# Altium integrated library TI Power Management Step-Up Regulator.IntLib: 226 symbols (part 2 of 11)
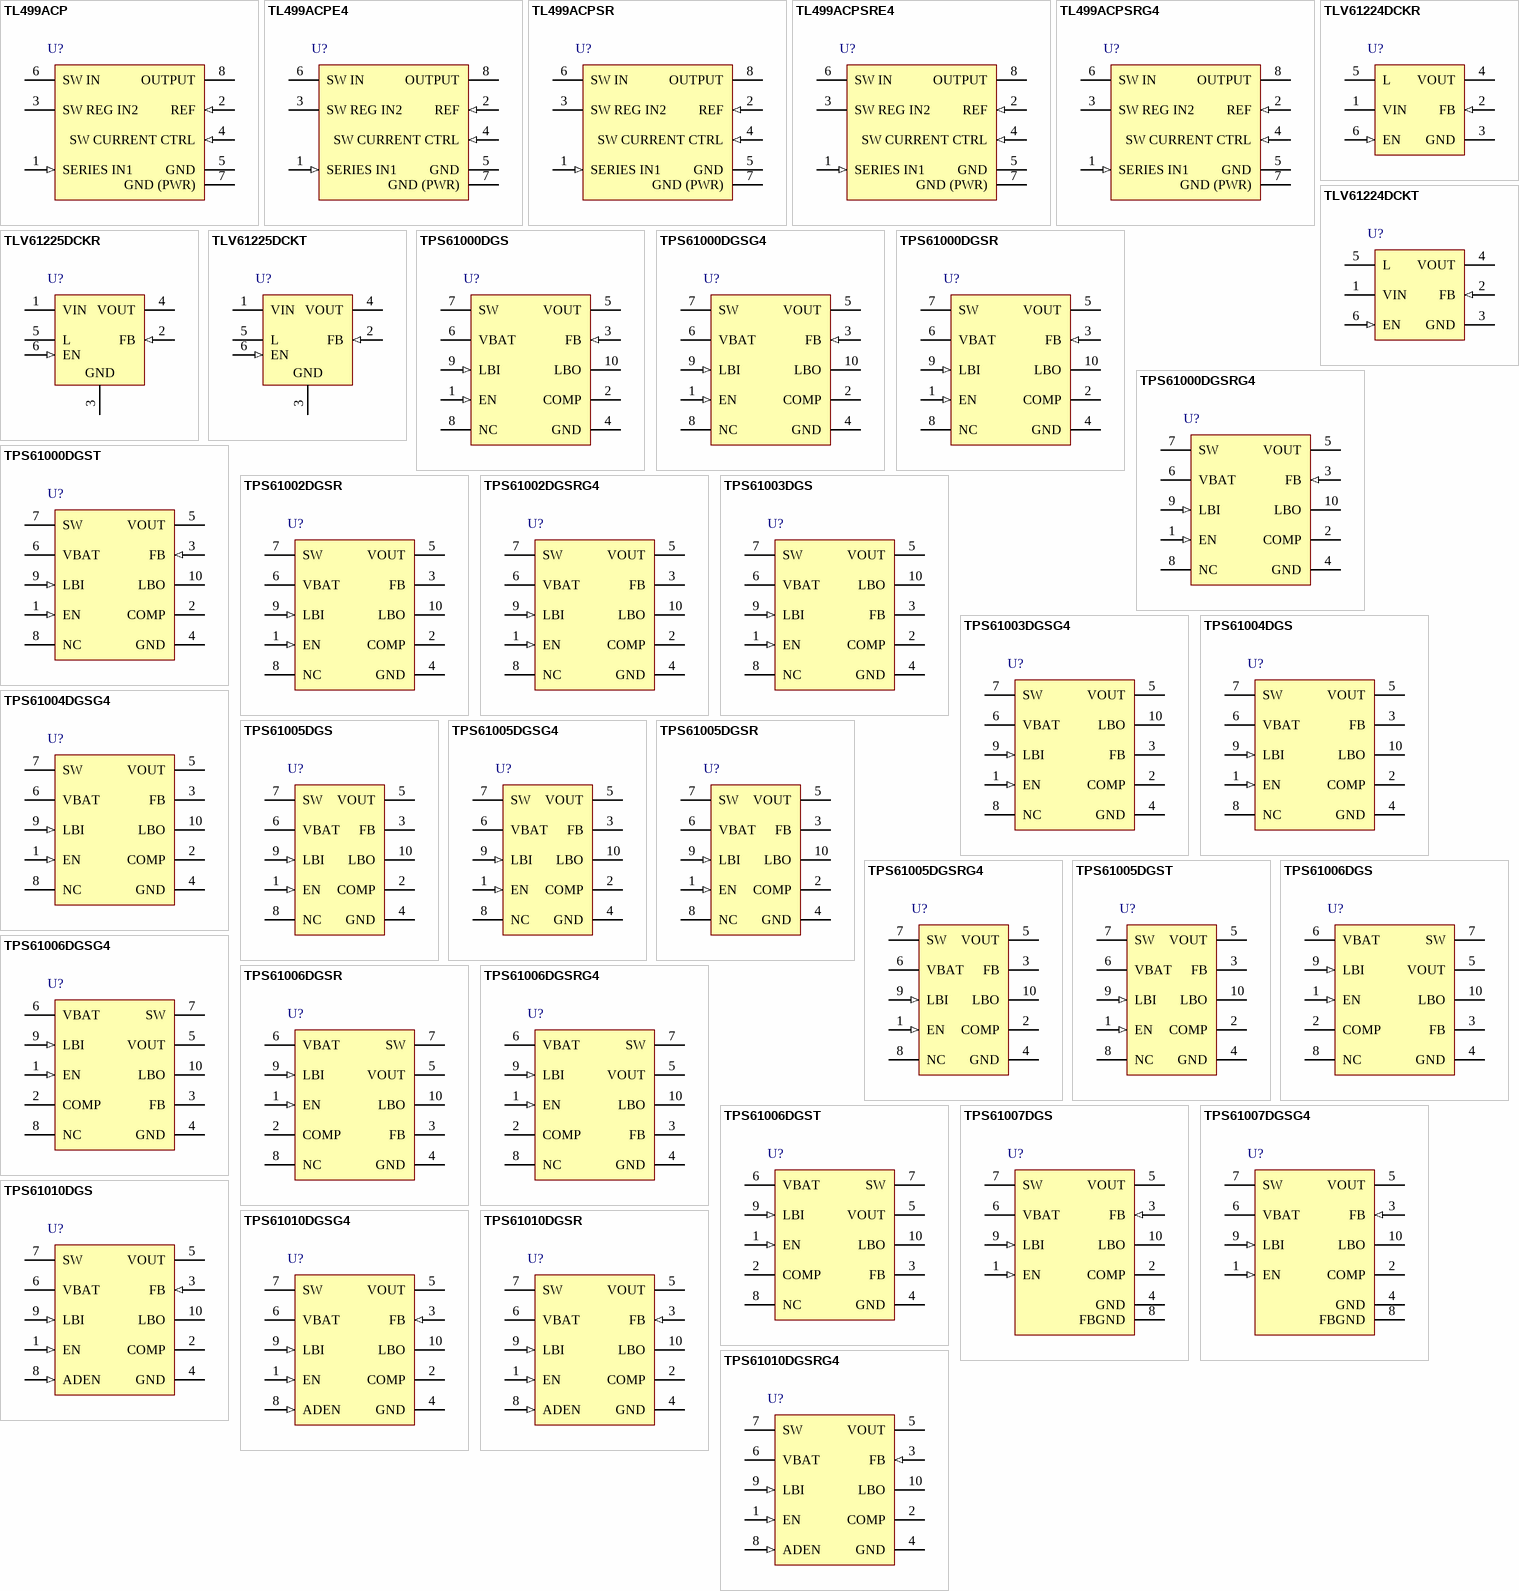
[diagram p7: symbols TL499ACP to TPS61010DGSRG4]

## TPS61005DGSR
designator U?
Boost Fixed Converter with 0.8 to 3 V Input and 3 V Output, -40 to 85 degC, 10-Pin MSOP (DGS), Green (RoHS & no Sb/Br); Manufacturer: Texas Instruments; PartNumber: TPS61005DGSR; Preset Vout(V): 3; Regulated Outputs(#): 1; SubFamily: Step-Up Regulator; Switching Frequency(Max)(kHz): 840; Vin(Min)(V): 0.8; DatasheetVersion: SLVS279C; PackageVersion: revC, Feb-2004; PackageReference: DGS10; PackageDescription: 10-Pin Thin Shrink Small Outline Package 0.5 mm Pitch; Supplier 1: Digi-Key; Supplier Part Number 1: TPS61005DGSR-ND; Supplier 2: Newark; Supplier Part Number 2: 77C0650; Supplier 3: Mouser; Supplier Part Number 3: 595-TPS61005DGSR; Eco-Plan: Green (RoHS & no Sb/Br); Topology: Boost; Vin(Max)(V): 3; Vout(Max)(V): 3; Vout(Min)(V): 3; Mounting Technology: Surface Mount; Code_JEDEC: MO-187-BA; ComponentLink1Description: Datasheet; ComponentLink1URL: http://www.ti.com/general/docs/lit/getliterature.tsp?genericPartNumber=TPS61005&fileType=pdf; ComponentLink2Description: Package Specification; ComponentLink2URL: http://www.ti.com/litv/pdf/mpds373
footprint DGS10_N (TSSOP, 10-Leads, Body 3x3mm, Pitch 0.5mm, IPC Medium Density)
footprint DGS10_L (TSSOP, 10-Leads, Body 3x3mm, Pitch 0.5mm, IPC High Density)
footprint DGS10_M (TSSOP, 10-Leads, Body 3x3mm, Pitch 0.5mm, IPC Low Density)
pins: 1 EN (in) "Chip-enable input. The converter is switched on if EN is set high, and is switched off when EN is connected to ground (shutdown mode).", 2 COMP "Compensation of error amplifier. Connect R-C-C network to set frequency response of control loop. See the Application section for more details.", 3 FB "The output voltage is programmed depending on the values of resistors R1 and R2. For the fixed output voltage versions (TPS61000, TPS61002, TPS61003, TPS61004, TPS61005, TPS61006), leave the FB pin unconnected.", 4 GND (power) "Ground", 5 VOUT (power) "Output voltage. For the fixed output voltage versions, the integrated resistive divider is connected to this pin.", 6 VBAT (power) "Supply pin", 7 SW (power) "Switch input pin. The node between inductor and anode of the rectifier diode is connected to this pin.", 8 NC "Not connected (TPS61000, TPS61002, TPS61003, TPS61004, TPS61005, TPS61006).", 9 LBI (in) "Low-battery detector input. A low-battery signal is generated at the LBO pin when the voltage on LBI drops below the threshold of 500 mV. Connect LBI to GND or VBAT if the low-battery detector function is not used. Do not (See Datasheet)", 10 LBO (hiz) "Open-drain low-battery detector output. This pin is pulled low if the voltage on LBI drops below the threshold of 500 mV. A pullup resistor should be connected between LBO and VOUT."

## TPS61005DGSRG4
designator U?
Boost Fixed Converter with 0.8 to 3 V Input and 3 V Output, -40 to 85 degC, 10-Pin MSOP (DGS), Green (RoHS & no Sb/Br); Manufacturer: Texas Instruments; PartNumber: TPS61005DGSRG4; Preset Vout(V): 3; Regulated Outputs(#): 1; SubFamily: Step-Up Regulator; Switching Frequency(Max)(kHz): 840; Vin(Min)(V): 0.8; DatasheetVersion: SLVS279C; PackageVersion: revC, Feb-2004; PackageReference: DGS10; PackageDescription: 10-Pin Thin Shrink Small Outline Package 0.5 mm Pitch; Supplier 1: Digi-Key; Supplier Part Number 1: TPS61005DGSRG4-ND; Supplier 2: Newark; Supplier Part Number 2: 24K6014; Supplier 3: Mouser; Supplier Part Number 3: 595-TPS61005DGSRG4; Eco-Plan: Green (RoHS & no Sb/Br); Topology: Boost; Vin(Max)(V): 3; Vout(Max)(V): 3; Vout(Min)(V): 3; Mounting Technology: Surface Mount; Code_JEDEC: MO-187-BA; ComponentLink1Description: Datasheet; ComponentLink1URL: http://www.ti.com/general/docs/lit/getliterature.tsp?genericPartNumber=TPS61005&fileType=pdf; ComponentLink2Description: Package Specification; ComponentLink2URL: http://www.ti.com/litv/pdf/mpds373
footprint DGS10_N (TSSOP, 10-Leads, Body 3x3mm, Pitch 0.5mm, IPC Medium Density)
footprint DGS10_L (TSSOP, 10-Leads, Body 3x3mm, Pitch 0.5mm, IPC High Density)
footprint DGS10_M (TSSOP, 10-Leads, Body 3x3mm, Pitch 0.5mm, IPC Low Density)
pins: 1 EN (in) "Chip-enable input. The converter is switched on if EN is set high, and is switched off when EN is connected to ground (shutdown mode).", 2 COMP "Compensation of error amplifier. Connect R-C-C network to set frequency response of control loop. See the Application section for more details.", 3 FB "The output voltage is programmed depending on the values of resistors R1 and R2. For the fixed output voltage versions (TPS61000, TPS61002, TPS61003, TPS61004, TPS61005, TPS61006), leave the FB pin unconnected.", 4 GND (power) "Ground", 5 VOUT (power) "Output voltage. For the fixed output voltage versions, the integrated resistive divider is connected to this pin.", 6 VBAT (power) "Supply pin", 7 SW (power) "Switch input pin. The node between inductor and anode of the rectifier diode is connected to this pin.", 8 NC "Not connected (TPS61000, TPS61002, TPS61003, TPS61004, TPS61005, TPS61006).", 9 LBI (in) "Low-battery detector input. A low-battery signal is generated at the LBO pin when the voltage on LBI drops below the threshold of 500 mV. Connect LBI to GND or VBAT if the low-battery detector function is not used. Do not (See Datasheet)", 10 LBO (hiz) "Open-drain low-battery detector output. This pin is pulled low if the voltage on LBI drops below the threshold of 500 mV. A pullup resistor should be connected between LBO and VOUT."

## TPS61005DGST
designator U?
Boost Fixed Converter with 0.8 to 3 V Input and 3 V Output, 10-Pin MSOP (DGS); Manufacturer: Texas Instruments; PartNumber: TPS61005DGST; Preset Vout(V): 3; Regulated Outputs(#): 1; SubFamily: Step-Up Regulator; Switching Frequency(Max)(kHz): 840; Vin(Min)(V): 0.8; DatasheetVersion: SLVS279C; PackageVersion: revC, Feb-2004; PackageReference: DGS10; PackageDescription: 10-Pin Thin Shrink Small Outline Package 0.5 mm Pitch; Supplier 1: Mouser; Supplier Part Number 1: N/A; Topology: Boost; Vin(Max)(V): 3; Vout(Max)(V): 3; Vout(Min)(V): 3; Mounting Technology: Surface Mount; Code_JEDEC: MO-187-BA; ComponentLink1Description: Datasheet; ComponentLink1URL: http://www.ti.com/general/docs/lit/getliterature.tsp?genericPartNumber=TPS61005&fileType=pdf; ComponentLink2Description: Package Specification; ComponentLink2URL: http://www.ti.com/litv/pdf/mpds373
footprint DGS10_N (TSSOP, 10-Leads, Body 3x3mm, Pitch 0.5mm, IPC Medium Density)
footprint DGS10_L (TSSOP, 10-Leads, Body 3x3mm, Pitch 0.5mm, IPC High Density)
footprint DGS10_M (TSSOP, 10-Leads, Body 3x3mm, Pitch 0.5mm, IPC Low Density)
pins: 1 EN (in) "Chip-enable input. The converter is switched on if EN is set high, and is switched off when EN is connected to ground (shutdown mode).", 2 COMP "Compensation of error amplifier. Connect R-C-C network to set frequency response of control loop. See the Application section for more details.", 3 FB "The output voltage is programmed depending on the values of resistors R1 and R2. For the fixed output voltage versions (TPS61000, TPS61002, TPS61003, TPS61004, TPS61005, TPS61006), leave the FB pin unconnected.", 4 GND (power) "Ground", 5 VOUT (power) "Output voltage. For the fixed output voltage versions, the integrated resistive divider is connected to this pin.", 6 VBAT (power) "Supply pin", 7 SW (power) "Switch input pin. The node between inductor and anode of the rectifier diode is connected to this pin.", 8 NC "Not connected (TPS61000, TPS61002, TPS61003, TPS61004, TPS61005, TPS61006).", 9 LBI (in) "Low-battery detector input. A low-battery signal is generated at the LBO pin when the voltage on LBI drops below the threshold of 500 mV. Connect LBI to GND or VBAT if the low-battery detector function is not used. Do not (See Datasheet)", 10 LBO (hiz) "Open-drain low-battery detector output. This pin is pulled low if the voltage on LBI drops below the threshold of 500 mV. A pullup resistor should be connected between LBO and VOUT."

## TPS61006DGS
designator U?
Boost Fixed Converter with 0.8 to 3.3 V Input and 3.3 V Output, -40 to 85 degC, 10-Pin MSOP (DGS), Green (RoHS & no Sb/Br); Manufacturer: Texas Instruments; PartNumber: TPS61006DGS; Preset Vout(V): 3.3; Regulated Outputs(#): 1; SubFamily: Step-Up Regulator; Switching Frequency(Max)(kHz): 840; Vin(Min)(V): 0.8; DatasheetVersion: SLVS279C; PackageVersion: revC, Feb-2004; PackageReference: DGS10; PackageDescription: 10-Pin Thin Shrink Small Outline Package 0.5 mm Pitch; Supplier 1: Digi-Key; Supplier Part Number 1: 296-3223-5-ND; Supplier 2: Farnell; Supplier Part Number 2: 1102967; Supplier 3: Newark; Supplier Part Number 3: 24M8534; Supplier 4: Newark; Supplier Part Number 4: 19C9065; Supplier 5: Mouser; Supplier Part Number 5: 595-TPS61006DGS; Eco-Plan: Green (RoHS & no Sb/Br); Topology: Boost; Vin(Max)(V): 3.3; Vout(Max)(V): 3.3; Vout(Min)(V): 3.3; Mounting Technology: Surface Mount; Code_JEDEC: MO-187-BA; ComponentLink1Description: Datasheet; ComponentLink1URL: http://www.ti.com/general/docs/lit/getliterature.tsp?genericPartNumber=TPS61006&fileType=pdf; ComponentLink2Description: Package Specification; ComponentLink2URL: http://www.ti.com/litv/pdf/mpds373
footprint DGS10_N (TSSOP, 10-Leads, Body 3x3mm, Pitch 0.5mm, IPC Medium Density)
footprint DGS10_L (TSSOP, 10-Leads, Body 3x3mm, Pitch 0.5mm, IPC High Density)
footprint DGS10_M (TSSOP, 10-Leads, Body 3x3mm, Pitch 0.5mm, IPC Low Density)
pins: 1 EN (in) "Chip-enable input. The converter is switched on if EN is set high, and is switched off when EN is connected to ground (shutdown mode).", 2 COMP "Compensation of error amplifier. Connect R-C-C network to set frequency response of control loop. See the Application section for more details.", 3 FB "The output voltage is programmed depending on the values of resistors R1 and R2. For the fixed output voltage versions (TPS61000, TPS61002, TPS61003, TPS61004, TPS61005, TPS61006), leave the FB pin unconnected.", 4 GND (power) "Ground", 5 VOUT (power) "Output voltage. For the fixed output voltage versions, the integrated resistive divider is connected to this pin.", 6 VBAT (power) "Supply pin", 7 SW (power) "Switch input pin. The node between inductor and anode of the rectifier diode is connected to this pin.", 8 NC "Not connected (TPS61000, TPS61002, TPS61003, TPS61004, TPS61005, TPS61006).", 9 LBI (in) "Low-battery detector input. A low-battery signal is generated at the LBO pin when the voltage on LBI drops below the threshold of 500 mV. Connect LBI to GND or VBAT if the low-battery detector function is not used. Do not (See Datasheet)", 10 LBO (hiz) "Open-drain low-battery detector output. This pin is pulled low if the voltage on LBI drops below the threshold of 500 mV. A pullup resistor should be connected between LBO and VOUT."

## TPS61006DGSG4
designator U?
Boost Fixed Converter with 0.8 to 3.3 V Input and 3.3 V Output, -40 to 85 degC, 10-Pin MSOP (DGS), Green (RoHS & no Sb/Br); Manufacturer: Texas Instruments; PartNumber: TPS61006DGSG4; Preset Vout(V): 3.3; Regulated Outputs(#): 1; SubFamily: Step-Up Regulator; Switching Frequency(Max)(kHz): 840; Vin(Min)(V): 0.8; DatasheetVersion: SLVS279C; PackageVersion: revC, Feb-2004; PackageReference: DGS10; PackageDescription: 10-Pin Thin Shrink Small Outline Package 0.5 mm Pitch; Supplier 1: Digi-Key; Supplier Part Number 1: TPS61006DGSG4-ND; Supplier 2: Newark; Supplier Part Number 2: 24K6015; Supplier 3: Mouser; Supplier Part Number 3: 595-TPS61006DGSG4; Eco-Plan: Green (RoHS & no Sb/Br); Topology: Boost; Vin(Max)(V): 3.3; Vout(Max)(V): 3.3; Vout(Min)(V): 3.3; Mounting Technology: Surface Mount; Code_JEDEC: MO-187-BA; ComponentLink1Description: Datasheet; ComponentLink1URL: http://www.ti.com/general/docs/lit/getliterature.tsp?genericPartNumber=TPS61006&fileType=pdf; ComponentLink2Description: Package Specification; ComponentLink2URL: http://www.ti.com/litv/pdf/mpds373
footprint DGS10_N (TSSOP, 10-Leads, Body 3x3mm, Pitch 0.5mm, IPC Medium Density)
footprint DGS10_L (TSSOP, 10-Leads, Body 3x3mm, Pitch 0.5mm, IPC High Density)
footprint DGS10_M (TSSOP, 10-Leads, Body 3x3mm, Pitch 0.5mm, IPC Low Density)
pins: 1 EN (in) "Chip-enable input. The converter is switched on if EN is set high, and is switched off when EN is connected to ground (shutdown mode).", 2 COMP "Compensation of error amplifier. Connect R-C-C network to set frequency response of control loop. See the Application section for more details.", 3 FB "The output voltage is programmed depending on the values of resistors R1 and R2. For the fixed output voltage versions (TPS61000, TPS61002, TPS61003, TPS61004, TPS61005, TPS61006), leave the FB pin unconnected.", 4 GND (power) "Ground", 5 VOUT (power) "Output voltage. For the fixed output voltage versions, the integrated resistive divider is connected to this pin.", 6 VBAT (power) "Supply pin", 7 SW (power) "Switch input pin. The node between inductor and anode of the rectifier diode is connected to this pin.", 8 NC "Not connected (TPS61000, TPS61002, TPS61003, TPS61004, TPS61005, TPS61006).", 9 LBI (in) "Low-battery detector input. A low-battery signal is generated at the LBO pin when the voltage on LBI drops below the threshold of 500 mV. Connect LBI to GND or VBAT if the low-battery detector function is not used. Do not (See Datasheet)", 10 LBO (hiz) "Open-drain low-battery detector output. This pin is pulled low if the voltage on LBI drops below the threshold of 500 mV. A pullup resistor should be connected between LBO and VOUT."

## TPS61006DGSR
designator U?
Boost Fixed Converter with 0.8 to 3.3 V Input and 3.3 V Output, -40 to 85 degC, 10-Pin MSOP (DGS), Green (RoHS & no Sb/Br); Manufacturer: Texas Instruments; PartNumber: TPS61006DGSR; Preset Vout(V): 3.3; Regulated Outputs(#): 1; SubFamily: Step-Up Regulator; Switching Frequency(Max)(kHz): 840; Vin(Min)(V): 0.8; DatasheetVersion: SLVS279C; PackageVersion: revC, Feb-2004; PackageReference: DGS10; PackageDescription: 10-Pin Thin Shrink Small Outline Package 0.5 mm Pitch; Supplier 1: Digi-Key; Supplier Part Number 1: TPS61006DGSR-ND; Supplier 2: Newark; Supplier Part Number 2: 77C0651; Supplier 3: Mouser; Supplier Part Number 3: 595-TPS61006DGSR; Eco-Plan: Green (RoHS & no Sb/Br); Topology: Boost; Vin(Max)(V): 3.3; Vout(Max)(V): 3.3; Vout(Min)(V): 3.3; Mounting Technology: Surface Mount; Code_JEDEC: MO-187-BA; ComponentLink1Description: Datasheet; ComponentLink1URL: http://www.ti.com/general/docs/lit/getliterature.tsp?genericPartNumber=TPS61006&fileType=pdf; ComponentLink2Description: Package Specification; ComponentLink2URL: http://www.ti.com/litv/pdf/mpds373
footprint DGS10_N (TSSOP, 10-Leads, Body 3x3mm, Pitch 0.5mm, IPC Medium Density)
footprint DGS10_L (TSSOP, 10-Leads, Body 3x3mm, Pitch 0.5mm, IPC High Density)
footprint DGS10_M (TSSOP, 10-Leads, Body 3x3mm, Pitch 0.5mm, IPC Low Density)
pins: 1 EN (in) "Chip-enable input. The converter is switched on if EN is set high, and is switched off when EN is connected to ground (shutdown mode).", 2 COMP "Compensation of error amplifier. Connect R-C-C network to set frequency response of control loop. See the Application section for more details.", 3 FB "The output voltage is programmed depending on the values of resistors R1 and R2. For the fixed output voltage versions (TPS61000, TPS61002, TPS61003, TPS61004, TPS61005, TPS61006), leave the FB pin unconnected.", 4 GND (power) "Ground", 5 VOUT (power) "Output voltage. For the fixed output voltage versions, the integrated resistive divider is connected to this pin.", 6 VBAT (power) "Supply pin", 7 SW (power) "Switch input pin. The node between inductor and anode of the rectifier diode is connected to this pin.", 8 NC "Not connected (TPS61000, TPS61002, TPS61003, TPS61004, TPS61005, TPS61006).", 9 LBI (in) "Low-battery detector input. A low-battery signal is generated at the LBO pin when the voltage on LBI drops below the threshold of 500 mV. Connect LBI to GND or VBAT if the low-battery detector function is not used. Do not (See Datasheet)", 10 LBO (hiz) "Open-drain low-battery detector output. This pin is pulled low if the voltage on LBI drops below the threshold of 500 mV. A pullup resistor should be connected between LBO and VOUT."

## TPS61006DGSRG4
designator U?
Boost Fixed Converter with 0.8 to 3.3 V Input and 3.3 V Output, -40 to 85 degC, 10-Pin MSOP (DGS), Green (RoHS & no Sb/Br); Manufacturer: Texas Instruments; PartNumber: TPS61006DGSRG4; Preset Vout(V): 3.3; Regulated Outputs(#): 1; SubFamily: Step-Up Regulator; Switching Frequency(Max)(kHz): 840; Vin(Min)(V): 0.8; DatasheetVersion: SLVS279C; PackageVersion: revC, Feb-2004; PackageReference: DGS10; PackageDescription: 10-Pin Thin Shrink Small Outline Package 0.5 mm Pitch; Supplier 1: Digi-Key; Supplier Part Number 1: TPS61006DGSRG4-ND; Supplier 2: Newark; Supplier Part Number 2: 71J8179; Supplier 3: Mouser; Supplier Part Number 3: 595-TPS61006DGSRG4; Eco-Plan: Green (RoHS & no Sb/Br); Topology: Boost; Vin(Max)(V): 3.3; Vout(Max)(V): 3.3; Vout(Min)(V): 3.3; Mounting Technology: Surface Mount; Code_JEDEC: MO-187-BA; ComponentLink1Description: Datasheet; ComponentLink1URL: http://www.ti.com/general/docs/lit/getliterature.tsp?genericPartNumber=TPS61006&fileType=pdf; ComponentLink2Description: Package Specification; ComponentLink2URL: http://www.ti.com/litv/pdf/mpds373
footprint DGS10_N (TSSOP, 10-Leads, Body 3x3mm, Pitch 0.5mm, IPC Medium Density)
footprint DGS10_L (TSSOP, 10-Leads, Body 3x3mm, Pitch 0.5mm, IPC High Density)
footprint DGS10_M (TSSOP, 10-Leads, Body 3x3mm, Pitch 0.5mm, IPC Low Density)
pins: 1 EN (in) "Chip-enable input. The converter is switched on if EN is set high, and is switched off when EN is connected to ground (shutdown mode).", 2 COMP "Compensation of error amplifier. Connect R-C-C network to set frequency response of control loop. See the Application section for more details.", 3 FB "The output voltage is programmed depending on the values of resistors R1 and R2. For the fixed output voltage versions (TPS61000, TPS61002, TPS61003, TPS61004, TPS61005, TPS61006), leave the FB pin unconnected.", 4 GND (power) "Ground", 5 VOUT (power) "Output voltage. For the fixed output voltage versions, the integrated resistive divider is connected to this pin.", 6 VBAT (power) "Supply pin", 7 SW (power) "Switch input pin. The node between inductor and anode of the rectifier diode is connected to this pin.", 8 NC "Not connected (TPS61000, TPS61002, TPS61003, TPS61004, TPS61005, TPS61006).", 9 LBI (in) "Low-battery detector input. A low-battery signal is generated at the LBO pin when the voltage on LBI drops below the threshold of 500 mV. Connect LBI to GND or VBAT if the low-battery detector function is not used. Do not (See Datasheet)", 10 LBO (hiz) "Open-drain low-battery detector output. This pin is pulled low if the voltage on LBI drops below the threshold of 500 mV. A pullup resistor should be connected between LBO and VOUT."

## TPS61006DGST
designator U?
Boost Fixed Converter with 0.8 to 3.3 V Input and 3.3 V Output, -40 to 85 degC, 10-Pin MSOP (DGS); Manufacturer: Texas Instruments; PartNumber: TPS61006DGST; Preset Vout(V): 3.3; Regulated Outputs(#): 1; SubFamily: Step-Up Regulator; Switching Frequency(Max)(kHz): 840; Vin(Min)(V): 0.8; DatasheetVersion: SLVS279C; PackageVersion: revC, Feb-2004; PackageReference: DGS10; PackageDescription: 10-Pin Thin Shrink Small Outline Package 0.5 mm Pitch; Supplier 1: Mouser; Supplier Part Number 1: N/A; Topology: Boost; Vin(Max)(V): 3.3; Vout(Max)(V): 3.3; Vout(Min)(V): 3.3; Mounting Technology: Surface Mount; Code_JEDEC: MO-187-BA; ComponentLink1Description: Datasheet; ComponentLink1URL: http://www.ti.com/general/docs/lit/getliterature.tsp?genericPartNumber=TPS61006&fileType=pdf; ComponentLink2Description: Package Specification; ComponentLink2URL: http://www.ti.com/litv/pdf/mpds373
footprint DGS10_N (TSSOP, 10-Leads, Body 3x3mm, Pitch 0.5mm, IPC Medium Density)
footprint DGS10_L (TSSOP, 10-Leads, Body 3x3mm, Pitch 0.5mm, IPC High Density)
footprint DGS10_M (TSSOP, 10-Leads, Body 3x3mm, Pitch 0.5mm, IPC Low Density)
pins: 1 EN (in) "Chip-enable input. The converter is switched on if EN is set high, and is switched off when EN is connected to ground (shutdown mode).", 2 COMP "Compensation of error amplifier. Connect R-C-C network to set frequency response of control loop. See the Application section for more details.", 3 FB "The output voltage is programmed depending on the values of resistors R1 and R2. For the fixed output voltage versions (TPS61000, TPS61002, TPS61003, TPS61004, TPS61005, TPS61006), leave the FB pin unconnected.", 4 GND (power) "Ground", 5 VOUT (power) "Output voltage. For the fixed output voltage versions, the integrated resistive divider is connected to this pin.", 6 VBAT (power) "Supply pin", 7 SW (power) "Switch input pin. The node between inductor and anode of the rectifier diode is connected to this pin.", 8 NC "Not connected (TPS61000, TPS61002, TPS61003, TPS61004, TPS61005, TPS61006).", 9 LBI (in) "Low-battery detector input. A low-battery signal is generated at the LBO pin when the voltage on LBI drops below the threshold of 500 mV. Connect LBI to GND or VBAT if the low-battery detector function is not used. Do not (See Datasheet)", 10 LBO (hiz) "Open-drain low-battery detector output. This pin is pulled low if the voltage on LBI drops below the threshold of 500 mV. A pullup resistor should be connected between LBO and VOUT."

## TPS61007DGS
designator U?
Boost Adjustable Converter with 0.8 to 3.3 V Input and 1.5 to 3.3 V Output, -40 to 85 degC, 10-Pin MSOP (DGS), Green (RoHS & no Sb/Br); Manufacturer: Texas Instruments; PartNumber: TPS61007DGS; Regulated Outputs(#): 1; SubFamily: Step-Up Regulator; Switching Frequency(Max)(kHz): 840; Vin(Max)(V): 3.3; Vin(Min)(V): 0.8; Vout(Min)(V): 1.5; DatasheetVersion: SLVS279C; PackageVersion: revC, Feb-2004; PackageReference: DGS10; PackageDescription: 10-Pin Thin Shrink Small Outline Package 0.5 mm Pitch; Supplier 1: Digi-Key; Supplier Part Number 1: 296-3224-5-ND; Supplier 2: Newark; Supplier Part Number 2: 77C0653; Supplier 3: Mouser; Supplier Part Number 3: 595-TPS61007DGS; Eco-Plan: Green (RoHS & no Sb/Br); Topology: Boost; Vout(Max)(V): 3.3; Mounting Technology: Surface Mount; Code_JEDEC: MO-187-BA; ComponentLink1Description: Datasheet; ComponentLink1URL: http://www.ti.com/general/docs/lit/getliterature.tsp?genericPartNumber=TPS61007&fileType=pdf; ComponentLink2Description: Package Specification; ComponentLink2URL: http://www.ti.com/litv/pdf/mpds373
footprint DGS10_N (TSSOP, 10-Leads, Body 3x3mm, Pitch 0.5mm, IPC Medium Density)
footprint DGS10_L (TSSOP, 10-Leads, Body 3x3mm, Pitch 0.5mm, IPC High Density)
footprint DGS10_M (TSSOP, 10-Leads, Body 3x3mm, Pitch 0.5mm, IPC Low Density)
pins: 1 EN (in) "Chip-enable input. The converter is switched on if EN is set high, and is switched off when EN is connected to ground (shutdown mode).", 2 COMP "Compensation of error amplifier. Connect R-C-C network to set frequency response of control loop. See the Application section for more details.", 3 FB (in) "Feedback input for adjustable output voltage (TPS61000 only). The output voltage is programmed depending on the values of resistors R1 and R2. For the fixed output voltage versions (TPS61000, TPS61002, TPS61003, TPS61004, (See Datasheet)", 4 GND (power) "Ground", 5 VOUT (power) "Output voltage. For the fixed output voltage versions, the integrated resistive divider is connected to this pin.", 6 VBAT (power) "Supply pin", 7 SW (power) "Switch input pin. The node between inductor and anode of the rectifier diode is connected to this pin.", 8 FBGND (power) "Not connected (TPS61000, TPS61002, TPS61003, TPS61004, TPS61005, TPS61006). A ground pin for the feedback resistor divider for the TPS61007 only.", 9 LBI (in) "Low-battery detector input. A low-battery signal is generated at the LBO pin when the voltage on LBI drops below the threshold of 500 mV. Connect LBI to GND or VBAT if the low-battery detector function is not used. Do not (See Datasheet)", 10 LBO (hiz) "Open-drain low-battery detector output. This pin is pulled low if the voltage on LBI drops below the threshold of 500 mV. A pullup resistor should be connected between LBO and VOUT."

## TPS61007DGSG4
designator U?
Boost Adjustable Converter with 0.8 to 3.3 V Input and 1.5 to 3.3 V Output, -40 to 85 degC, 10-Pin MSOP (DGS), Green (RoHS & no Sb/Br); Manufacturer: Texas Instruments; PartNumber: TPS61007DGSG4; Regulated Outputs(#): 1; SubFamily: Step-Up Regulator; Switching Frequency(Max)(kHz): 840; Vin(Max)(V): 3.3; Vin(Min)(V): 0.8; Vout(Min)(V): 1.5; DatasheetVersion: SLVS279C; PackageVersion: revC, Feb-2004; PackageReference: DGS10; PackageDescription: 10-Pin Thin Shrink Small Outline Package 0.5 mm Pitch; Supplier 1: Digi-Key; Supplier Part Number 1: TPS61007DGSG4-ND; Supplier 2: Newark; Supplier Part Number 2: 24K6016; Supplier 3: Mouser; Supplier Part Number 3: 595-TPS61007DGSG4; Eco-Plan: Green (RoHS & no Sb/Br); Topology: Boost; Vout(Max)(V): 3.3; Mounting Technology: Surface Mount; Code_JEDEC: MO-187-BA; ComponentLink1Description: Datasheet; ComponentLink1URL: http://www.ti.com/general/docs/lit/getliterature.tsp?genericPartNumber=TPS61007&fileType=pdf; ComponentLink2Description: Package Specification; ComponentLink2URL: http://www.ti.com/litv/pdf/mpds373
footprint DGS10_N (TSSOP, 10-Leads, Body 3x3mm, Pitch 0.5mm, IPC Medium Density)
footprint DGS10_L (TSSOP, 10-Leads, Body 3x3mm, Pitch 0.5mm, IPC High Density)
footprint DGS10_M (TSSOP, 10-Leads, Body 3x3mm, Pitch 0.5mm, IPC Low Density)
pins: 1 EN (in) "Chip-enable input. The converter is switched on if EN is set high, and is switched off when EN is connected to ground (shutdown mode).", 2 COMP "Compensation of error amplifier. Connect R-C-C network to set frequency response of control loop. See the Application section for more details.", 3 FB (in) "Feedback input for adjustable output voltage (TPS61000 only). The output voltage is programmed depending on the values of resistors R1 and R2. For the fixed output voltage versions (TPS61000, TPS61002, TPS61003, TPS61004, (See Datasheet)", 4 GND (power) "Ground", 5 VOUT (power) "Output voltage. For the fixed output voltage versions, the integrated resistive divider is connected to this pin.", 6 VBAT (power) "Supply pin", 7 SW (power) "Switch input pin. The node between inductor and anode of the rectifier diode is connected to this pin.", 8 FBGND (power) "Not connected (TPS61000, TPS61002, TPS61003, TPS61004, TPS61005, TPS61006). A ground pin for the feedback resistor divider for the TPS61007 only.", 9 LBI (in) "Low-battery detector input. A low-battery signal is generated at the LBO pin when the voltage on LBI drops below the threshold of 500 mV. Connect LBI to GND or VBAT if the low-battery detector function is not used. Do not (See Datasheet)", 10 LBO (hiz) "Open-drain low-battery detector output. This pin is pulled low if the voltage on LBI drops below the threshold of 500 mV. A pullup resistor should be connected between LBO and VOUT."

## TPS61010DGS
designator U?
Boost Adjustable Converter with 0.8 to 3.3 V Input and 1.5 to 3.3 V Output, -40 to 85 degC, 10-Pin MSOP (DGS), Green (RoHS & no Sb/Br); Manufacturer: Texas Instruments; PartNumber: TPS61010DGS; Regulated Outputs(#): 1; SubFamily: Step-Up Regulator; Switching Frequency(Max)(kHz): 780; Synchronous Rectification: TRUE; Vin(Max)(V): 3.3; Vin(Min)(V): 0.8; Vout(Min)(V): 1.5; DatasheetVersion: SLVS314D; PackageVersion: revC, Feb-2004; PackageReference: DGS10; PackageDescription: 10-Pin Thin Shrink Small Outline Package 0.5 mm Pitch; Supplier 1: Digi-Key; Supplier Part Number 1: 296-10969-5-ND; Supplier 2: Farnell; Supplier Part Number 2: 8457808; Supplier 3: Newark; Supplier Part Number 3: 25C5037; Supplier 4: Mouser; Supplier Part Number 4: 595-TPS61010DGS; Eco-Plan: Green (RoHS & no Sb/Br); Topology: Boost; Vout(Max)(V): 3.3; Mounting Technology: Surface Mount; Code_JEDEC: MO-187-BA; ComponentLink1Description: Datasheet; ComponentLink1URL: http://www.ti.com/general/docs/lit/getliterature.tsp?genericPartNumber=TPS61010&fileType=pdf; ComponentLink2Description: Package Specification; ComponentLink2URL: http://www.ti.com/litv/pdf/mpds373
footprint DGS10_N (TSSOP, 10-Leads, Body 3x3mm, Pitch 0.5mm, IPC Medium Density)
footprint DGS10_L (TSSOP, 10-Leads, Body 3x3mm, Pitch 0.5mm, IPC High Density)
footprint DGS10_M (TSSOP, 10-Leads, Body 3x3mm, Pitch 0.5mm, IPC Low Density)
pins: 1 EN (in) "Chip-enable input. The converter is switched on if this pin is set high, it is switched off if this pin is connected to GND.", 2 COMP "Compensation of error amplifier. Connect an R/C/C network to set frequency response of control loop.", 3 FB (in) "Feedback input for adjustable output voltage version TPS61010. Output voltage is programmed depending on the output voltage divider connected there. For the fixed output voltage versions, leave FB-pin unconnected.", 4 GND (power) "Ground", 5 VOUT (power) "Output voltage. Internal resistor divider sets regulated output voltage in fixed output voltage versions.", 6 VBAT (power) "Supply pin", 7 SW (power) "Switch input pin. The inductor is connected to this pin.", 8 ADEN (in) "Autodischarge input. The autodischarge function is enabled if this pin is connected to VBAT, it is disabled if ADEN is tied to GND.", 9 LBI (in) "Low-battery detector input. A low battery warning is generated at LBO when the voltage on LBI drops below the threshold of 500 mV. Connect LBI to GND or VBAT if the low-battery detector function is not used. Do not leave (See Datasheet)", 10 LBO (hiz) "Open-drain low-battery detector output. This pin is pulled low if the voltage on LBI drops below the threshold of 500 mV. A pullup resistor must be connected between LBO and VOUT."

## TPS61010DGSG4
designator U?
Boost Adjustable Converter with 0.8 to 3.3 V Input and 1.5 to 3.3 V Output, -40 to 85 degC, 10-Pin MSOP (DGS), Green (RoHS & no Sb/Br); Manufacturer: Texas Instruments; PartNumber: TPS61010DGSG4; Regulated Outputs(#): 1; SubFamily: Step-Up Regulator; Switching Frequency(Max)(kHz): 780; Synchronous Rectification: TRUE; Vin(Max)(V): 3.3; Vin(Min)(V): 0.8; Vout(Min)(V): 1.5; DatasheetVersion: SLVS314D; PackageVersion: revC, Feb-2004; PackageReference: DGS10; PackageDescription: 10-Pin Thin Shrink Small Outline Package 0.5 mm Pitch; Supplier 1: Digi-Key; Supplier Part Number 1: TPS61010DGSG4-ND; Supplier 2: Farnell; Supplier Part Number 2: 9324283; Supplier 3: Newark; Supplier Part Number 3: 71J8180; Supplier 4: Mouser; Supplier Part Number 4: 595-TPS61010DGSG4; Eco-Plan: Green (RoHS & no Sb/Br); Topology: Boost; Vout(Max)(V): 3.3; Mounting Technology: Surface Mount; Code_JEDEC: MO-187-BA; ComponentLink1Description: Datasheet; ComponentLink1URL: http://www.ti.com/general/docs/lit/getliterature.tsp?genericPartNumber=TPS61010&fileType=pdf; ComponentLink2Description: Package Specification; ComponentLink2URL: http://www.ti.com/litv/pdf/mpds373
footprint DGS10_N (TSSOP, 10-Leads, Body 3x3mm, Pitch 0.5mm, IPC Medium Density)
footprint DGS10_L (TSSOP, 10-Leads, Body 3x3mm, Pitch 0.5mm, IPC High Density)
footprint DGS10_M (TSSOP, 10-Leads, Body 3x3mm, Pitch 0.5mm, IPC Low Density)
pins: 1 EN (in) "Chip-enable input. The converter is switched on if this pin is set high, it is switched off if this pin is connected to GND.", 2 COMP "Compensation of error amplifier. Connect an R/C/C network to set frequency response of control loop.", 3 FB (in) "Feedback input for adjustable output voltage version TPS61010. Output voltage is programmed depending on the output voltage divider connected there. For the fixed output voltage versions, leave FB-pin unconnected.", 4 GND (power) "Ground", 5 VOUT (power) "Output voltage. Internal resistor divider sets regulated output voltage in fixed output voltage versions.", 6 VBAT (power) "Supply pin", 7 SW (power) "Switch input pin. The inductor is connected to this pin.", 8 ADEN (in) "Autodischarge input. The autodischarge function is enabled if this pin is connected to VBAT, it is disabled if ADEN is tied to GND.", 9 LBI (in) "Low-battery detector input. A low battery warning is generated at LBO when the voltage on LBI drops below the threshold of 500 mV. Connect LBI to GND or VBAT if the low-battery detector function is not used. Do not leave (See Datasheet)", 10 LBO (hiz) "Open-drain low-battery detector output. This pin is pulled low if the voltage on LBI drops below the threshold of 500 mV. A pullup resistor must be connected between LBO and VOUT."

## TPS61010DGSR
designator U?
Boost Adjustable Converter with 0.8 to 3.3 V Input and 1.5 to 3.3 V Output, -40 to 85 degC, 10-Pin MSOP (DGS), Green (RoHS & no Sb/Br); Manufacturer: Texas Instruments; PartNumber: TPS61010DGSR; Regulated Outputs(#): 1; SubFamily: Step-Up Regulator; Switching Frequency(Max)(kHz): 780; Synchronous Rectification: TRUE; Vin(Max)(V): 3.3; Vin(Min)(V): 0.8; Vout(Min)(V): 1.5; DatasheetVersion: SLVS314D; PackageVersion: revC, Feb-2004; PackageReference: DGS10; PackageDescription: 10-Pin Thin Shrink Small Outline Package 0.5 mm Pitch; Supplier 1: Digi-Key; Supplier Part Number 1: 296-25778-2-ND; Supplier 2: Digi-Key; Supplier Part Number 2: 296-25778-1-ND; Supplier 3: Digi-Key; Supplier Part Number 3: 296-25778-6-ND; Supplier 4: Newark; Supplier Part Number 4: 77C0655; Supplier 5: Mouser; Supplier Part Number 5: 595-TPS61010DGSR; Eco-Plan: Green (RoHS & no Sb/Br); Topology: Boost; Vout(Max)(V): 3.3; Mounting Technology: Surface Mount; Code_JEDEC: MO-187-BA; ComponentLink1Description: Datasheet; ComponentLink1URL: http://www.ti.com/general/docs/lit/getliterature.tsp?genericPartNumber=TPS61010&fileType=pdf; ComponentLink2Description: Package Specification; ComponentLink2URL: http://www.ti.com/litv/pdf/mpds373
footprint DGS10_N (TSSOP, 10-Leads, Body 3x3mm, Pitch 0.5mm, IPC Medium Density)
footprint DGS10_L (TSSOP, 10-Leads, Body 3x3mm, Pitch 0.5mm, IPC High Density)
footprint DGS10_M (TSSOP, 10-Leads, Body 3x3mm, Pitch 0.5mm, IPC Low Density)
pins: 1 EN (in) "Chip-enable input. The converter is switched on if this pin is set high, it is switched off if this pin is connected to GND.", 2 COMP "Compensation of error amplifier. Connect an R/C/C network to set frequency response of control loop.", 3 FB (in) "Feedback input for adjustable output voltage version TPS61010. Output voltage is programmed depending on the output voltage divider connected there. For the fixed output voltage versions, leave FB-pin unconnected.", 4 GND (power) "Ground", 5 VOUT (power) "Output voltage. Internal resistor divider sets regulated output voltage in fixed output voltage versions.", 6 VBAT (power) "Supply pin", 7 SW (power) "Switch input pin. The inductor is connected to this pin.", 8 ADEN (in) "Autodischarge input. The autodischarge function is enabled if this pin is connected to VBAT, it is disabled if ADEN is tied to GND.", 9 LBI (in) "Low-battery detector input. A low battery warning is generated at LBO when the voltage on LBI drops below the threshold of 500 mV. Connect LBI to GND or VBAT if the low-battery detector function is not used. Do not leave (See Datasheet)", 10 LBO (hiz) "Open-drain low-battery detector output. This pin is pulled low if the voltage on LBI drops below the threshold of 500 mV. A pullup resistor must be connected between LBO and VOUT."

## TPS61010DGSRG4
designator U?
Boost Adjustable Converter with 0.8 to 3.3 V Input and 1.5 to 3.3 V Output, -40 to 85 degC, 10-Pin MSOP (DGS), Green (RoHS & no Sb/Br); Manufacturer: Texas Instruments; PartNumber: TPS61010DGSRG4; Regulated Outputs(#): 1; SubFamily: Step-Up Regulator; Switching Frequency(Max)(kHz): 780; Synchronous Rectification: TRUE; Vin(Max)(V): 3.3; Vin(Min)(V): 0.8; Vout(Min)(V): 1.5; DatasheetVersion: SLVS314D; PackageVersion: revC, Feb-2004; PackageReference: DGS10; PackageDescription: 10-Pin Thin Shrink Small Outline Package 0.5 mm Pitch; Supplier 1: Digi-Key; Supplier Part Number 1: TPS61010DGSRG4-ND; Supplier 2: Newark; Supplier Part Number 2: 65J6902; Supplier 3: Mouser; Supplier Part Number 3: 595-TPS61010DGSRG4; Eco-Plan: Green (RoHS & no Sb/Br); Topology: Boost; Vout(Max)(V): 3.3; Mounting Technology: Surface Mount; Code_JEDEC: MO-187-BA; ComponentLink1Description: Datasheet; ComponentLink1URL: http://www.ti.com/general/docs/lit/getliterature.tsp?genericPartNumber=TPS61010&fileType=pdf; ComponentLink2Description: Package Specification; ComponentLink2URL: http://www.ti.com/litv/pdf/mpds373
footprint DGS10_N (TSSOP, 10-Leads, Body 3x3mm, Pitch 0.5mm, IPC Medium Density)
footprint DGS10_L (TSSOP, 10-Leads, Body 3x3mm, Pitch 0.5mm, IPC High Density)
footprint DGS10_M (TSSOP, 10-Leads, Body 3x3mm, Pitch 0.5mm, IPC Low Density)
pins: 1 EN (in) "Chip-enable input. The converter is switched on if this pin is set high, it is switched off if this pin is connected to GND.", 2 COMP "Compensation of error amplifier. Connect an R/C/C network to set frequency response of control loop.", 3 FB (in) "Feedback input for adjustable output voltage version TPS61010. Output voltage is programmed depending on the output voltage divider connected there. For the fixed output voltage versions, leave FB-pin unconnected.", 4 GND (power) "Ground", 5 VOUT (power) "Output voltage. Internal resistor divider sets regulated output voltage in fixed output voltage versions.", 6 VBAT (power) "Supply pin", 7 SW (power) "Switch input pin. The inductor is connected to this pin.", 8 ADEN (in) "Autodischarge input. The autodischarge function is enabled if this pin is connected to VBAT, it is disabled if ADEN is tied to GND.", 9 LBI (in) "Low-battery detector input. A low battery warning is generated at LBO when the voltage on LBI drops below the threshold of 500 mV. Connect LBI to GND or VBAT if the low-battery detector function is not used. Do not leave (See Datasheet)", 10 LBO (hiz) "Open-drain low-battery detector output. This pin is pulled low if the voltage on LBI drops below the threshold of 500 mV. A pullup resistor must be connected between LBO and VOUT."

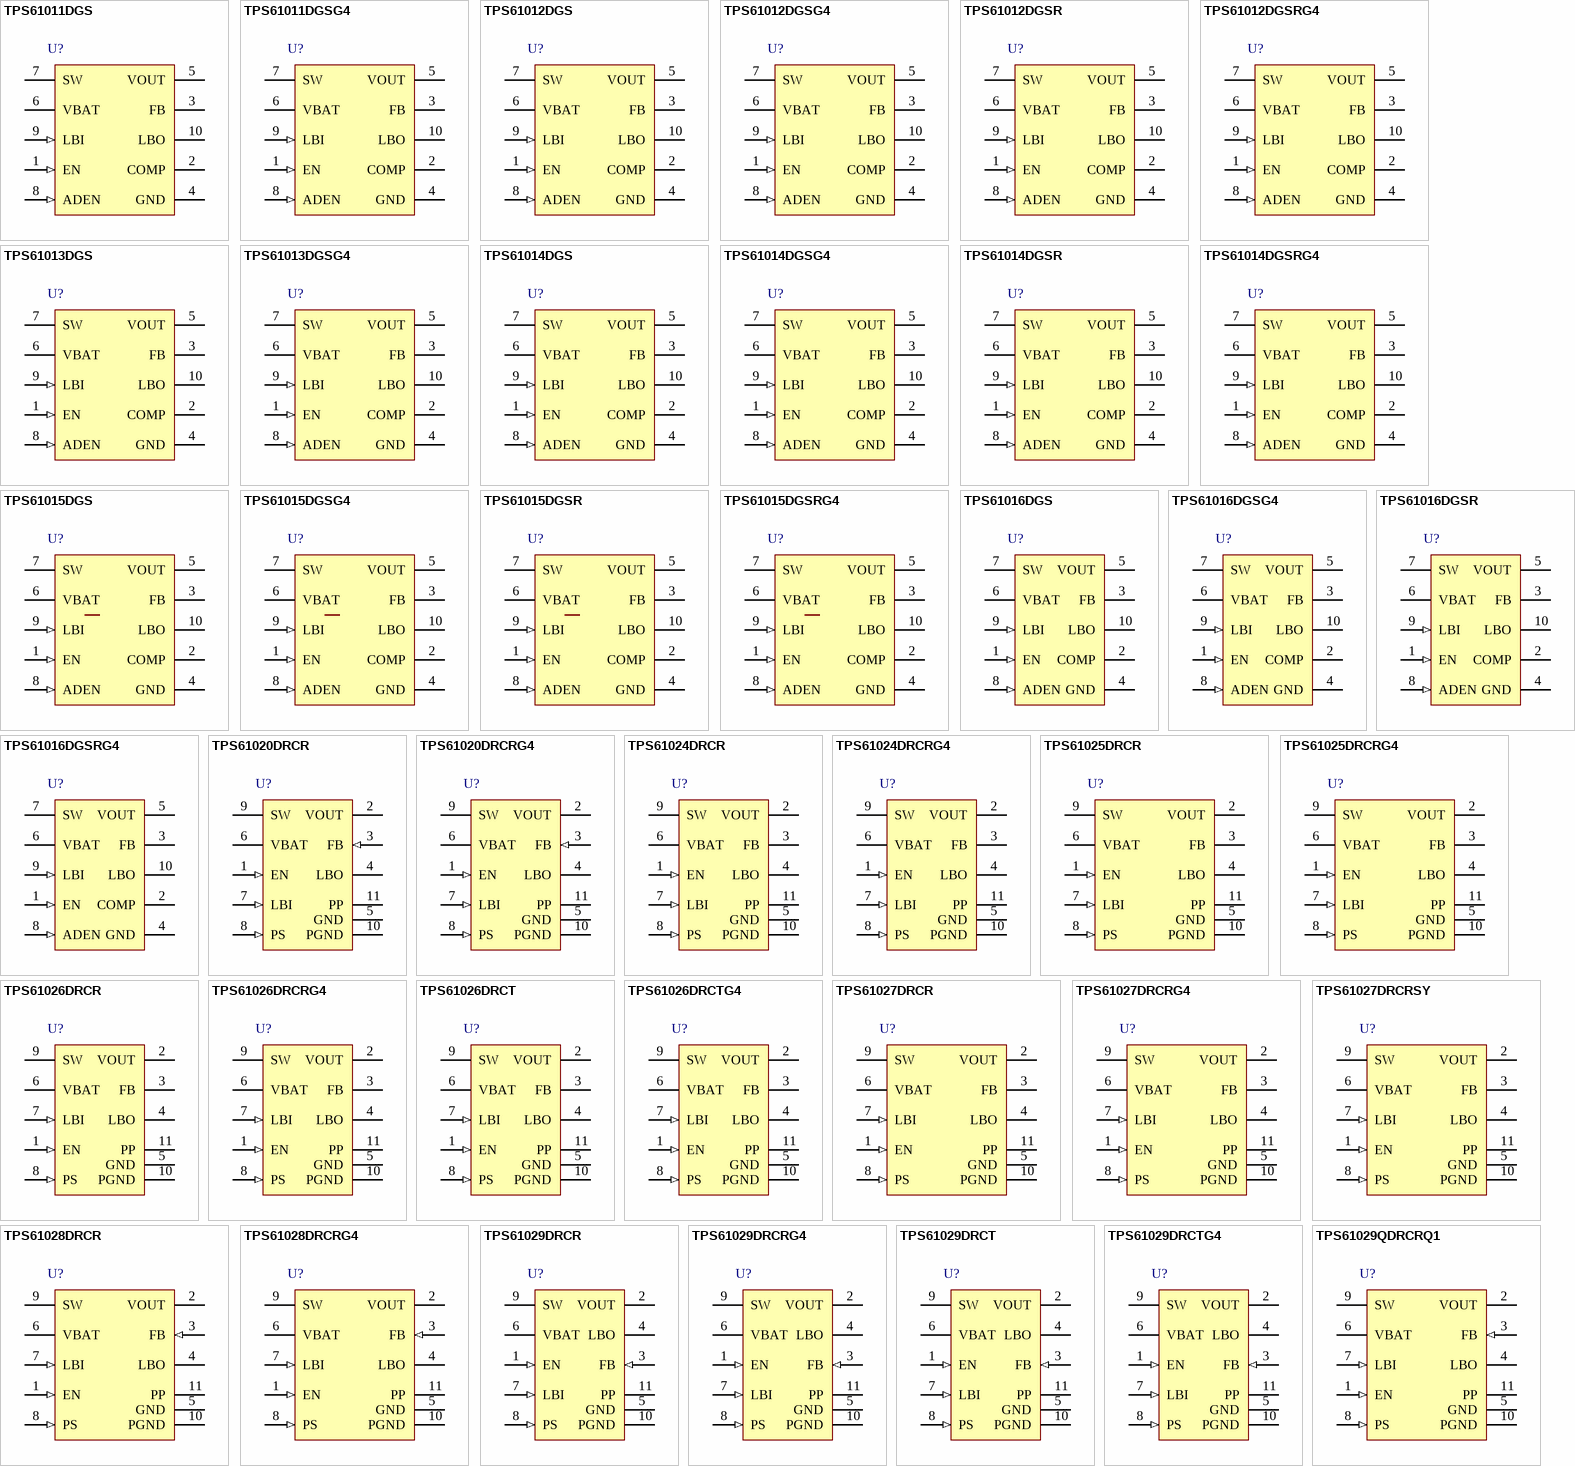
[diagram p1: symbols TPS61011DGS to TPS61029QDRCRQ1]

## TPS61011DGS
designator U?
Boost Voltage Converter with 0.8 to 1.5 V Input and 1.5 V Output, -40 to 85 degC, 10-Pin MSOP (DGS); Manufacturer: Texas Instruments; PartNumber: TPS61011DGS; Eco-Plan: TBD; Preset Vout(V): 1.5; Regulated Outputs(#): 1; SubFamily: Step-Up Regulator; Switching Frequency(Max)(kHz): 780; Synchronous Rectification: TRUE; Vin(Min)(V): 0.8; DatasheetVersion: SLVS314D; PackageVersion: revC, Feb-2004; PackageReference: DGS10; PackageDescription: 10-Pin Thin Shrink Small Outline Package 0.5 mm Pitch; Supplier 1: Digi-Key; Supplier Part Number 1: 296-10970-5-ND; Supplier 2: Newark; Supplier Part Number 2: 77C0657; Supplier 3: Mouser; Supplier Part Number 3: 595-TPS61011DGS; Topology: Boost; Vin(Max)(V): 1.5; Vout(Max)(V): 1.5; Vout(Min)(V): 1.5; Mounting Technology: Surface Mount; Code_JEDEC: MO-187-BA; ComponentLink1Description: Datasheet; ComponentLink1URL: http://www.ti.com/general/docs/lit/getliterature.tsp?genericPartNumber=TPS61011&fileType=pdf; ComponentLink2Description: Package Specification; ComponentLink2URL: http://www.ti.com/litv/pdf/mpds373
footprint DGS10_N (TSSOP, 10-Leads, Body 3x3mm, Pitch 0.5mm, IPC Medium Density)
footprint DGS10_L (TSSOP, 10-Leads, Body 3x3mm, Pitch 0.5mm, IPC High Density)
footprint DGS10_M (TSSOP, 10-Leads, Body 3x3mm, Pitch 0.5mm, IPC Low Density)
pins: 1 EN (in) "Chip-enable input. The converter is switched on if this pin is set high, it is switched off if this pin is connected to GND.", 2 COMP "Compensation of error amplifier. Connect an R/C/C network to set frequency response of control loop.", 3 FB "Feedback input for adjustable output voltage version TPS61010. Output voltage is programmed depending on the output voltage divider connected there. For the fixed output voltage versions, leave FB-pin unconnected.", 4 GND (power) "Ground", 5 VOUT (power) "Output voltage. Internal resistor divider sets regulated output voltage in fixed output voltage versions.", 6 VBAT (power) "Supply pin", 7 SW (power) "Switch input pin. The inductor is connected to this pin.", 8 ADEN (in) "Autodischarge input. The autodischarge function is enabled if this pin is connected to VBAT, it is disabled if ADEN is tied to GND.", 9 LBI (in) "Low-battery detector input. A low battery warning is generated at LBO when the voltage on LBI drops below the threshold of 500 mV. Connect LBI to GND or VBAT if the low-battery detector function is not used. Do not leave (See Datasheet)", 10 LBO (hiz) "Open-drain low-battery detector output. This pin is pulled low if the voltage on LBI drops below the threshold of 500 mV. A pullup resistor must be connected between LBO and VOUT."

## TPS61011DGSG4
designator U?
Boost Voltage Converter with 0.8 to 1.5 V Input and 1.5 V Output, -40 to 85 degC, 10-Pin MSOP (DGS); Manufacturer: Texas Instruments; PartNumber: TPS61011DGSG4; Eco-Plan: TBD; Preset Vout(V): 1.5; Regulated Outputs(#): 1; SubFamily: Step-Up Regulator; Switching Frequency(Max)(kHz): 780; Synchronous Rectification: TRUE; Vin(Min)(V): 0.8; DatasheetVersion: SLVS314D; PackageVersion: revC, Feb-2004; PackageReference: DGS10; PackageDescription: 10-Pin Thin Shrink Small Outline Package 0.5 mm Pitch; Supplier 1: Digi-Key; Supplier Part Number 1: TPS61011DGSG4-ND; Supplier 2: Newark; Supplier Part Number 2: 54K1713; Supplier 3: Mouser; Supplier Part Number 3: 595-TPS61011DGSG4; Topology: Boost; Vin(Max)(V): 1.5; Vout(Max)(V): 1.5; Vout(Min)(V): 1.5; Mounting Technology: Surface Mount; Code_JEDEC: MO-187-BA; ComponentLink1Description: Datasheet; ComponentLink1URL: http://www.ti.com/general/docs/lit/getliterature.tsp?genericPartNumber=TPS61011&fileType=pdf; ComponentLink2Description: Package Specification; ComponentLink2URL: http://www.ti.com/litv/pdf/mpds373
footprint DGS10_N (TSSOP, 10-Leads, Body 3x3mm, Pitch 0.5mm, IPC Medium Density)
footprint DGS10_L (TSSOP, 10-Leads, Body 3x3mm, Pitch 0.5mm, IPC High Density)
footprint DGS10_M (TSSOP, 10-Leads, Body 3x3mm, Pitch 0.5mm, IPC Low Density)
pins: 1 EN (in) "Chip-enable input. The converter is switched on if this pin is set high, it is switched off if this pin is connected to GND.", 2 COMP "Compensation of error amplifier. Connect an R/C/C network to set frequency response of control loop.", 3 FB "Feedback input for adjustable output voltage version TPS61010. Output voltage is programmed depending on the output voltage divider connected there. For the fixed output voltage versions, leave FB-pin unconnected.", 4 GND (power) "Ground", 5 VOUT (power) "Output voltage. Internal resistor divider sets regulated output voltage in fixed output voltage versions.", 6 VBAT (power) "Supply pin", 7 SW (power) "Switch input pin. The inductor is connected to this pin.", 8 ADEN (in) "Autodischarge input. The autodischarge function is enabled if this pin is connected to VBAT, it is disabled if ADEN is tied to GND.", 9 LBI (in) "Low-battery detector input. A low battery warning is generated at LBO when the voltage on LBI drops below the threshold of 500 mV. Connect LBI to GND or VBAT if the low-battery detector function is not used. Do not leave (See Datasheet)", 10 LBO (hiz) "Open-drain low-battery detector output. This pin is pulled low if the voltage on LBI drops below the threshold of 500 mV. A pullup resistor must be connected between LBO and VOUT."

## TPS61012DGS
designator U?
Boost Fixed Converter with 0.8 to 1.8 V Input and 1.8 V Output, -40 to 85 degC, 10-Pin MSOP (DGS), Green (RoHS & no Sb/Br); Manufacturer: Texas Instruments; PartNumber: TPS61012DGS; Preset Vout(V): 1.8; Regulated Outputs(#): 1; SubFamily: Step-Up Regulator; Switching Frequency(Max)(kHz): 780; Synchronous Rectification: TRUE; Vin(Min)(V): 0.8; DatasheetVersion: SLVS314D; PackageVersion: revC, Feb-2004; PackageReference: DGS10; PackageDescription: 10-Pin Thin Shrink Small Outline Package 0.5 mm Pitch; Supplier 1: Digi-Key; Supplier Part Number 1: 296-10971-5-ND; Supplier 2: Farnell; Supplier Part Number 2: 1471236; Supplier 3: Newark; Supplier Part Number 3: 77C0659; Supplier 4: Mouser; Supplier Part Number 4: 595-TPS61012DGS; Eco-Plan: Green (RoHS & no Sb/Br); Topology: Boost; Vin(Max)(V): 1.8; Vout(Max)(V): 1.8; Vout(Min)(V): 1.8; Mounting Technology: Surface Mount; Code_JEDEC: MO-187-BA; ComponentLink1Description: Datasheet; ComponentLink1URL: http://www.ti.com/general/docs/lit/getliterature.tsp?genericPartNumber=TPS61012&fileType=pdf; ComponentLink2Description: Package Specification; ComponentLink2URL: http://www.ti.com/litv/pdf/mpds373
footprint DGS10_N (TSSOP, 10-Leads, Body 3x3mm, Pitch 0.5mm, IPC Medium Density)
footprint DGS10_L (TSSOP, 10-Leads, Body 3x3mm, Pitch 0.5mm, IPC High Density)
footprint DGS10_M (TSSOP, 10-Leads, Body 3x3mm, Pitch 0.5mm, IPC Low Density)
pins: 1 EN (in) "Chip-enable input. The converter is switched on if this pin is set high, it is switched off if this pin is connected to GND.", 2 COMP "Compensation of error amplifier. Connect an R/C/C network to set frequency response of control loop.", 3 FB "Feedback input for adjustable output voltage version TPS61010. Output voltage is programmed depending on the output voltage divider connected there. For the fixed output voltage versions, leave FB-pin unconnected.", 4 GND (power) "Ground", 5 VOUT (power) "Output voltage. Internal resistor divider sets regulated output voltage in fixed output voltage versions.", 6 VBAT (power) "Supply pin", 7 SW (power) "Switch input pin. The inductor is connected to this pin.", 8 ADEN (in) "Autodischarge input. The autodischarge function is enabled if this pin is connected to VBAT, it is disabled if ADEN is tied to GND.", 9 LBI (in) "Low-battery detector input. A low battery warning is generated at LBO when the voltage on LBI drops below the threshold of 500 mV. Connect LBI to GND or VBAT if the low-battery detector function is not used. Do not leave (See Datasheet)", 10 LBO (hiz) "Open-drain low-battery detector output. This pin is pulled low if the voltage on LBI drops below the threshold of 500 mV. A pullup resistor must be connected between LBO and VOUT."

## TPS61012DGSG4
designator U?
Boost Fixed Converter with 0.8 to 1.8 V Input and 1.8 V Output, -40 to 85 degC, 10-Pin MSOP (DGS), Green (RoHS & no Sb/Br); Manufacturer: Texas Instruments; PartNumber: TPS61012DGSG4; Preset Vout(V): 1.8; Regulated Outputs(#): 1; SubFamily: Step-Up Regulator; Switching Frequency(Max)(kHz): 780; Synchronous Rectification: TRUE; Vin(Min)(V): 0.8; DatasheetVersion: SLVS314D; PackageVersion: revC, Feb-2004; PackageReference: DGS10; PackageDescription: 10-Pin Thin Shrink Small Outline Package 0.5 mm Pitch; Supplier 1: Digi-Key; Supplier Part Number 1: TPS61012DGSG4-ND; Supplier 2: Newark; Supplier Part Number 2: 24K6019; Supplier 3: Mouser; Supplier Part Number 3: 595-TPS61012DGSG4; Eco-Plan: Green (RoHS & no Sb/Br); Topology: Boost; Vin(Max)(V): 1.8; Vout(Max)(V): 1.8; Vout(Min)(V): 1.8; Mounting Technology: Surface Mount; Code_JEDEC: MO-187-BA; ComponentLink1Description: Datasheet; ComponentLink1URL: http://www.ti.com/general/docs/lit/getliterature.tsp?genericPartNumber=TPS61012&fileType=pdf; ComponentLink2Description: Package Specification; ComponentLink2URL: http://www.ti.com/litv/pdf/mpds373
footprint DGS10_N (TSSOP, 10-Leads, Body 3x3mm, Pitch 0.5mm, IPC Medium Density)
footprint DGS10_L (TSSOP, 10-Leads, Body 3x3mm, Pitch 0.5mm, IPC High Density)
footprint DGS10_M (TSSOP, 10-Leads, Body 3x3mm, Pitch 0.5mm, IPC Low Density)
pins: 1 EN (in) "Chip-enable input. The converter is switched on if this pin is set high, it is switched off if this pin is connected to GND.", 2 COMP "Compensation of error amplifier. Connect an R/C/C network to set frequency response of control loop.", 3 FB "Feedback input for adjustable output voltage version TPS61010. Output voltage is programmed depending on the output voltage divider connected there. For the fixed output voltage versions, leave FB-pin unconnected.", 4 GND (power) "Ground", 5 VOUT (power) "Output voltage. Internal resistor divider sets regulated output voltage in fixed output voltage versions.", 6 VBAT (power) "Supply pin", 7 SW (power) "Switch input pin. The inductor is connected to this pin.", 8 ADEN (in) "Autodischarge input. The autodischarge function is enabled if this pin is connected to VBAT, it is disabled if ADEN is tied to GND.", 9 LBI (in) "Low-battery detector input. A low battery warning is generated at LBO when the voltage on LBI drops below the threshold of 500 mV. Connect LBI to GND or VBAT if the low-battery detector function is not used. Do not leave (See Datasheet)", 10 LBO (hiz) "Open-drain low-battery detector output. This pin is pulled low if the voltage on LBI drops below the threshold of 500 mV. A pullup resistor must be connected between LBO and VOUT."